# EAGLE library part LM393ADR (library LM393ADR)
TEXAS INSTRUMENTS - LM393ADR - COMPARATOR DUAL, SMD, SOIC8, 393 Source: Datasheet <http://www.ti.com/lit/ds/symlink/lm393a.pdf>
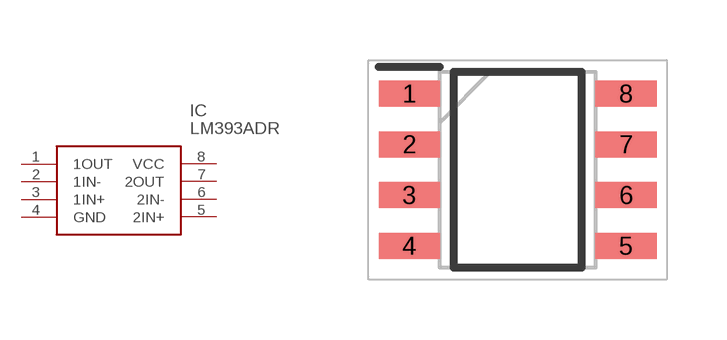
[diagram p0: symbol with the pads of SOIC127P600X175-8N; footprint SOIC127P600X175-8N]

Designator prefix IC

## LM393ADR (Arrow_Part_Number: LM393ADR; Arrow_Price-Stock: https://www.arrow.com/en/products/lm393adr/texas-instruments?utm_currency=USD&region=nac; Description: TEXAS INSTRUMENTS - LM393ADR - COMPARATOR DUAL, SMD, SOIC8, 393; Height: 1.75mm; Manufacturer_Name: Texas Instruments; Manufacturer_Part_Number: LM393ADR; Mouser_Part_Number: 595-LM393ADR; Mouser_Price-Stock: https://www.mouser.co.uk/ProductDetail/Texas-Instruments/LM393ADR?qs=VolsR0DjNPq76ZV6Dhd8nQ%3D%3D)  [SOIC127P600X175-8N]
1  1OUT
2  1IN-
3  1IN+
4  GND
5  2IN+
6  2IN-
7  2OUT
8  VCC

## Footprint SOIC127P600X175-8N (pad centres in mm)
D0008A
smd 1.528 x 0.65: 1 -2.711,1.905; 2 -2.711,0.635; 3 -2.711,-0.635; 4 -2.711,-1.905; 5 2.711,-1.905; 6 2.711,-0.635; 7 2.711,0.635; 8 2.711,1.905